# Altium footprint library ESP32-S3_Super_Mini.PcbLib: 1 footprints
Each footprint in its own frame and in the unit in brackets; x right, y up, seen from the top. Pads: shape width x height; smd on the part's side, far side on the other; paste and mask are expansions set on the pad; w line width, h text height; cw(c..) or ccw(c..) is an arc to the next point about the centre after c.
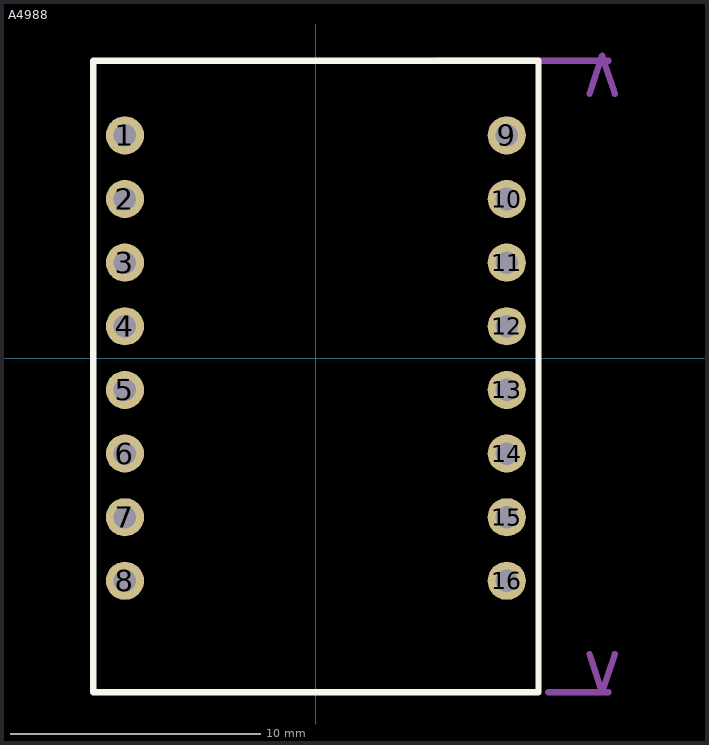
[diagram p0: the footprint, top view; thin cyan lines are the x and y axes]

## A4988 [mil]
pads (16):
  round 60 hole 35.43: 1(-300,350) 2(-300,250) 3(-300,150) 4(-300,50) 5(-300,-50) 6(-300,-150) 7(-300,-250) 8(-300,-350) 9(300,350) 10(300,250) 11(300,150) 12(300,50) 13(300,-50) 14(300,-150) 15(300,-250) 16(300,-350)
Top Overlay:
  lines w10: -350,464.57 -350,-525 350,-525 350,464.57 ; -350,467.13 -175,467.13 175,467.13 350,467.13
Mechanical 1:
  lines w10: 190,467.13 460,467.13 ; 365,-525 460,-525 ; 430,-465 450,-525 470,-465 ; 430,415 450,475 470,415
3D body "ESP32 S3 SUPERMINI--3DModel-STEP-418109.STEP": height 192.13, standoff 0, extent -354.33,-519.68 354.33,462.6